# Altium schematic symbol library MAX98357AEWL+T.SchLib: 1 symbol
Pins are listed as number, name and electrical type; pins without a type are passive.

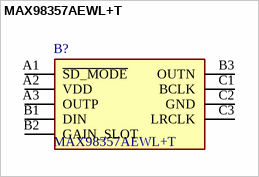
[diagram p0: symbol MAX98357AEWL+T]

## MAX98357AEWL+T
designator B?
Audio Amplifiers MAX98357AEWL+T; Manufacturer_Name: Analog Devices; Geometry.Height: 0.69mm; Mouser Part Number: 700-MAX98357AEWL+T; Mouser Price/Stock: https://www.mouser.co.uk/ProductDetail/Analog-Devices-Maxim-Integrated/MAX98357AEWL%2bT?qs=ZrtEiRxEuI4mjqOyZP4d0A%3D%3D; Manufacturer_Part_Number: MAX98357AEWL+T; Datasheet Link: https://datasheets.maximintegrated.com/en/ds/MAX98357A-MAX98357B.pdf
footprint BGA9C40P3X3_144X135X69
pins: A1 ~{SD_MODE}, A2 VDD, A3 OUTP, B1 DIN, B2 GAIN_SLOT, B3 OUTN, C1 BCLK, C2 GND, C3 LRCLK